# Altium footprint library TO-247(AC).PcbLib: 1 footprints
Each footprint in its own frame and in the unit in brackets; x right, y up, seen from the top. Pads: shape width x height; smd on the part's side, far side on the other; paste and mask are expansions set on the pad; w line width, h text height; cw(c..) or ccw(c..) is an arc to the next point about the centre after c.
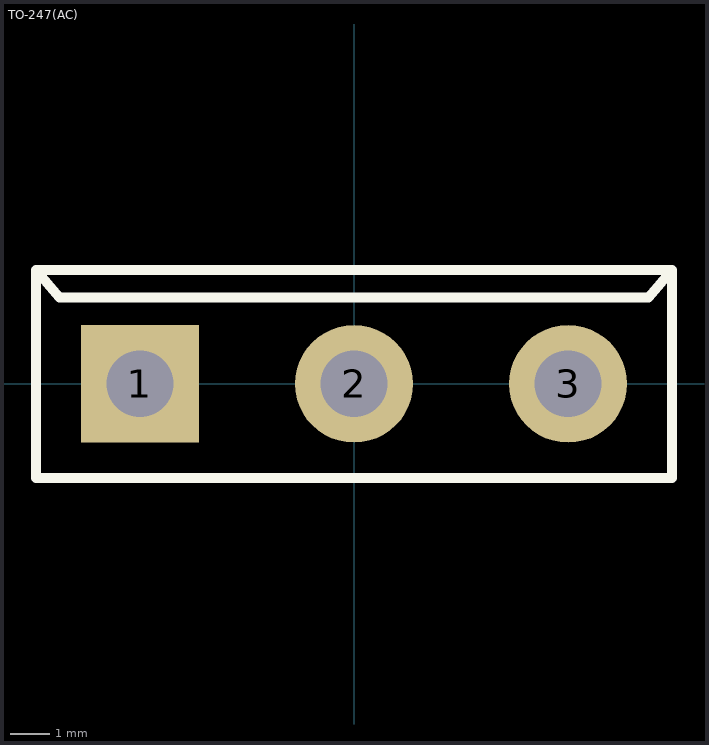
[diagram p0: the footprint, top view; thin cyan lines are the x and y axes]

## TO-247(AC) [mm]
pads (3):
  rect 3x3 hole 1.7: 1(-5.45,0)
  round 3 hole 1.7: 2(0,0) 3(5.45,0)
Top Overlay:
  lines w0.254: -8.1,2.9 8.1,2.9 ; -8.1,2.9 -8.1,-2.4 8.1,-2.4 8.1,2.9 ; -8.1,2.9 -7.5,2.2 7.5,2.2 8.1,2.9
3D body: height 26.35, standoff -15.05, extent -8,-2.2 8,2.8